# EAGLE library part DAC8564 (library EurorackModularParts)
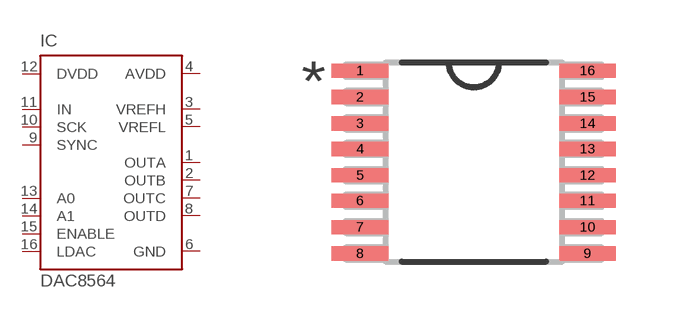
[diagram p11: symbol with the pads of SOP65P640X110-16N; footprint SOP65P640X110-16N]

Designator prefix IC

## DAC8564  [SOP65P640X110-16N]
1  OUTA  out
2  OUTB  out
3  VREFH
4  AVDD  pwr
5  VREFL
6  GND  pwr
7  OUTC  out
8  OUTD  out
9  SYNC  in
10  SCK  in
11  IN  in
12  DVDD  pwr
13  A0  in
14  A1  in
15  ENABLE  in
16  LDAC  in

## Footprint SOP65P640X110-16N (pad centres in mm)
smd 1.422 x 0.356: 1 -2.845,2.286; 2 -2.845,1.626; 3 -2.845,0.965; 4 -2.845,0.33; 5 -2.845,-0.33; 6 -2.845,-0.965; 7 -2.845,-1.626; 8 -2.845,-2.286; 9 2.845,-2.286; 10 2.845,-1.626; 11 2.845,-0.965; 12 2.845,-0.33; 13 2.845,0.33; 14 2.845,0.965; 15 2.845,1.626; 16 2.845,2.286